# Altium integrated library Phoenix_1888700.IntLib: 1 symbol
Pins are listed as number, name and electrical type; pins without a type are passive.

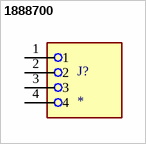
[diagram p0: symbol 1888700]

## 1888700
designator J?
MP: 1888700; Package: None; Price: None; Value: *; Availability: Unavailable
footprint PHOENIX_1888700
pins: 1, 2, 3, 4